# Altium schematic symbol library FAN2500.SchLib: 1 symbol
Pins are listed as number, name and electrical type; pins without a type are passive.

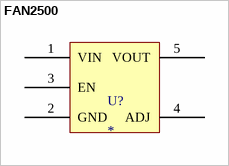
[diagram p0: symbol FAN2500]

## FAN2500
designator U?
Part No.: FAN2500; Manufacturer: Fairchild Semiconductor; Vendor: Mouser; Price Est.: $0.60
footprint SOT23-5 (SOT23, 5-Leads, Body 3.0x3.0mm (max), Pitch 0.95mm)
pins: 1 VIN, 2 GND, 3 EN, 4 ADJ, 5 VOUT